# EAGLE library part 630-246 (library hacesoft)
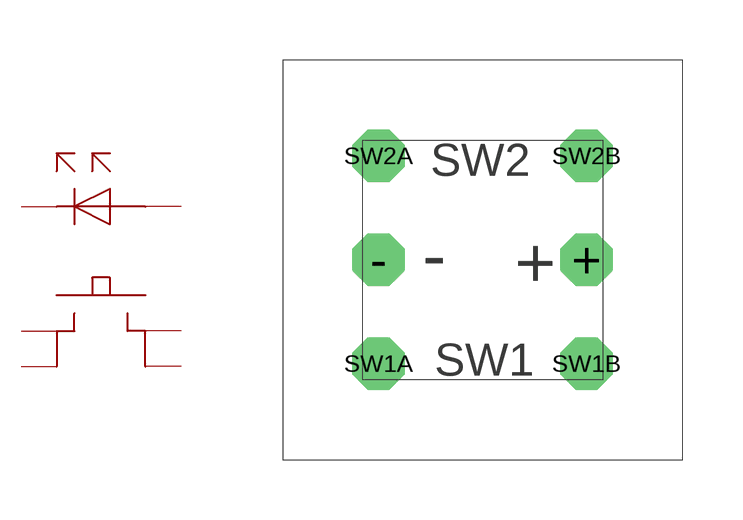
[diagram p18: symbol with the pads of 630-24X; footprint 630-24X]

Designator prefix -

## 630-246  [630-24X]
+  ANODA
-  KATODA
SW1A  SW1A
SW1B  SW1B
SW2A  SW2A
SW2B  SW2B

## Footprint 630-24X (pad centres in mm)
drill 0.8 octagon: + 5.2,2.6; - 0,2.6; SW1A 0,0; SW1B 5.2,0; SW2A 0,5.2; SW2B 5.2,5.2